# Altium footprint library n21-p2.PcbLib: 36 footprints (part 2 of 3)
Each footprint in its own frame and in the unit in brackets; x right, y up, seen from the top. Pads: shape width x height; smd on the part's side, far side on the other; paste and mask are expansions set on the pad; w line width, h text height; cw(c..) or ccw(c..) is an arc to the next point about the centre after c.
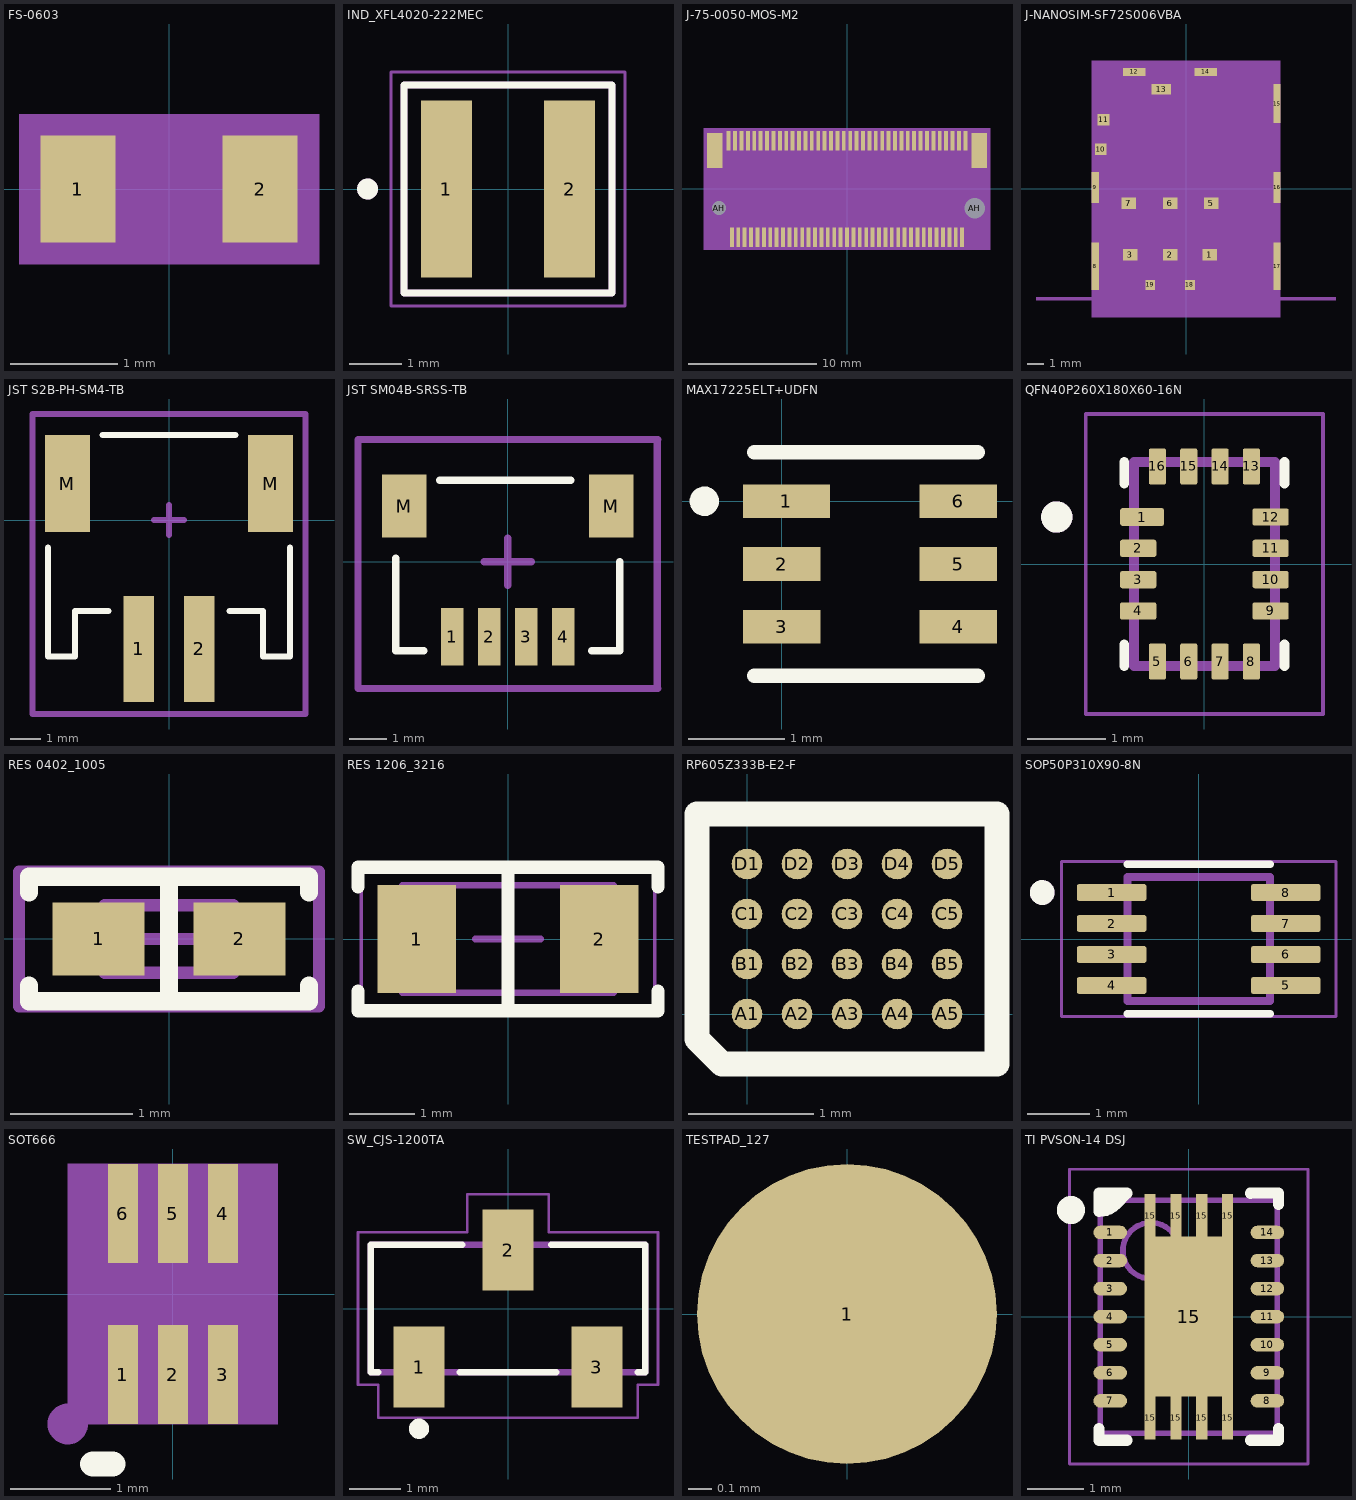
[diagram p1: the footprints below, top view; thin cyan lines are the x and y axes]

## FS-0603 [mm]
pads (2):
  rect 0.7x1 smd: 1(-0.85,0) 2(0.85,0)
Mechanical 19:
  text "1" at -0.85,0.08 h0.2
  text "2" at 0.85,0.08 h0.2
Top Assembly:
  dashed: -1.4,-0.7 -1.4,0.7 1.4,0.7 1.4,-0.7
  pour cut-out: 1.2,-0.5 -1.2,-0.5 -1.2,0.5 1.2,0.5
3D body "FS-0603.stp": height 0.86, standoff 0, extent -0.8,-0.43 0.8,0.43

## IND_XFL4020-222MEC [mm]
pads (2):
  rect 0.98x3.4 smd: 1(-1.185,0) 2(1.185,0)
Top Overlay:
  circle w0.2: c-2.7,0 r0.1
  lines w0.127: -2,-2 -2,2 2,2 2,-2 -2,-2
Mechanical 13:
  circle w0.2: c-2.7,0 r0.1
  lines w0.127: -2,-2 2,-2 2,2 -2,2 -2,-2
Mechanical 15:
  lines w0.05: -2.25,-2.25 2.25,-2.25 2.25,2.25 -2.25,2.25 -2.25,-2.25

## J-75-0050-MOS-M2 [mm]
pads (79):
  rect 0.3x1.55 smd: 1(-9.25,3.775) 2(-9,-3.775) 3(-8.75,3.775) 4(-8.5,-3.775) 5(-8.25,3.775) 6(-8,-3.775) 7(-7.75,3.775) 8(-7.5,-3.775) 9(-7.25,3.775) 10(-7,-3.775) 11(-6.75,3.775) 12(-6.5,-3.775) 13(-6.25,3.775) 14(-6,-3.775) 15(-5.75,3.775) 16(-5.5,-3.775) 17(-5.25,3.775) 18(-5,-3.775) 19(-4.75,3.775) 20(-4.5,-3.775) 21(-4.25,3.775) 22(-4,-3.775) 23(-3.75,3.775) 24(-3.5,-3.775) 25(-3.25,3.775) 26(-3,-3.775) 27(-2.75,3.775) 28(-2.5,-3.775) 29(-2.25,3.775) 30(-2,-3.775) 31(-1.75,3.775) 32(-1.5,-3.775) 33(-1.25,3.775) 34(-1,-3.775) 35(-0.75,3.775) 36(-0.5,-3.775) 37(-0.25,3.775) 38(0,-3.775) 39(0.25,3.775) 40(0.5,-3.775) 41(0.75,3.775) 42(1,-3.775) 43(1.25,3.775) 44(1.5,-3.775) 45(1.75,3.775) 46(2,-3.775) 47(2.25,3.775) 48(2.5,-3.775) 49(2.75,3.775) 50(3,-3.775) 51(3.25,3.775) 52(3.5,-3.775) 53(3.75,3.775) 54(4,-3.775) 55(4.25,3.775) 56(4.5,-3.775) 57(4.75,3.775) 58(5,-3.775) 59(5.25,3.775) 60(5.5,-3.775) 61(5.75,3.775) 62(6,-3.775) 63(6.25,3.775) 64(6.5,-3.775) 65(6.75,3.775) 66(7,-3.775) 67(7.25,3.775) 68(7.5,-3.775) 69(7.75,3.775) 70(8,-3.775) 71(8.25,3.775) 72(8.5,-3.775) 73(8.75,3.775) 74(9,-3.775) 75(9.25,3.775)
  round 1 hole 1.1 unplated: AH(-10,-1.5)
  round 1 hole 1.6 unplated: AH(10,-1.5)
  rect 1.2x2.75 smd: ""(-10.35,3) ""(10.35,3)
Top 3D Body:
  region: -11.2,4.75 11.2,4.75 11.2,-4.75 -11.2,-4.75
Mechanical 19:
  text "71" at 8.09,3.775 h0.2
  text "73" at 8.59,3.775 h0.2
  text "69" at 7.59,3.775 h0.2
  text "75" at 9.09,3.775 h0.2
  text "61" at 5.59,3.775 h0.2
  text "63" at 6.09,3.775 h0.2
  text "59" at 5.09,3.775 h0.2
  text "67" at 7.09,3.775 h0.2
  text "65" at 6.59,3.775 h0.2
  text "53" at 3.59,3.775 h0.2
  text "49" at 2.59,3.775 h0.2
  text "51" at 3.09,3.775 h0.2
  text "47" at 2.09,3.775 h0.2
  text "57" at 4.59,3.775 h0.2
  text "55" at 4.09,3.775 h0.2
  text "39" at 0.09,3.775 h0.2
  text "41" at 0.59,3.775 h0.2
  text "37" at -0.41,3.775 h0.2
  text "45" at 1.59,3.775 h0.2
  text "43" at 1.09,3.775 h0.2
  text "68" at 7.34,-3.775 h0.2
  text "70" at 7.84,-3.775 h0.2
  text "66" at 6.84,-3.775 h0.2
  text "74" at 8.84,-3.775 h0.2
  text "72" at 8.34,-3.775 h0.2
  text "62" at 5.84,-3.775 h0.2
  text "64" at 6.34,-3.775 h0.2
  text "58" at 4.84,-3.775 h0.2
  text "60" at 5.34,-3.775 h0.2
  text "52" at 3.34,-3.775 h0.2
  text "48" at 2.34,-3.775 h0.2
  text "50" at 2.84,-3.775 h0.2
  text "46" at 1.84,-3.775 h0.2
  text "56" at 4.34,-3.775 h0.2
  text "54" at 3.84,-3.775 h0.2
  text "40" at 0.34,-3.775 h0.2
  text "38" at -0.16,-3.775 h0.2
  text "44" at 1.34,-3.775 h0.2
  text "42" at 0.84,-3.775 h0.2
  text "33" at -1.41,3.775 h0.2
  text "35" at -0.91,3.775 h0.2
  text "31" at -1.91,3.775 h0.2
  text "30" at -2.16,-3.775 h0.2
  text "29" at -2.41,3.775 h0.2
  text "21" at -4.41,3.775 h0.2
  text "23" at -3.91,3.775 h0.2
  text "19" at -4.91,3.775 h0.2
  text "27" at -2.91,3.775 h0.2
  text "25" at -3.41,3.775 h0.2
  text "11" at -6.91,3.775 h0.2
  text "13" at -6.41,3.775 h0.2
  text "9" at -7.33,3.775 h0.2
  text "17" at -5.41,3.775 h0.2
  text "15" at -5.91,3.775 h0.2
  text "5" at -8.33,3.775 h0.2
  text "7" at -7.83,3.775 h0.2
  text "3" at -8.83,3.775 h0.2
  text "1" at -9.33,3.775 h0.2
  text "28" at -2.66,-3.775 h0.2
  text "32" at -1.66,-3.775 h0.2
  text "26" at -3.16,-3.775 h0.2
  text "36" at -0.66,-3.775 h0.2
  text "34" at -1.16,-3.775 h0.2
  text "24" at -3.66,-3.775 h0.2
  text "22" at -4.16,-3.775 h0.2
  text "16" at -5.66,-3.775 h0.2
  text "12" at -6.66,-3.775 h0.2
  text "14" at -6.16,-3.775 h0.2
  text "10" at -7.16,-3.775 h0.2
  text "20" at -4.66,-3.775 h0.2
  text "18" at -5.16,-3.775 h0.2
  text "4" at -8.58,-3.775 h0.2
  text "2" at -9.08,-3.775 h0.2
  text "8" at -7.58,-3.775 h0.2
  text "6" at -8.08,-3.775 h0.2
Top Assembly:
  pour cut-out: -11,-4.55 -11,4.55 11,4.55 11,-4.55
  dashed: -11.2,4.75 11.2,4.75 11.2,-4.75 -11.2,-4.75
3D body "J-75-0050-MOS-M2.stp": height 4.1, standoff -0.6, extent -10.95,-4.374 10.95,4.326

## J-NANOSIM-SF72S006VBA [mm]
pads (18):
  rect 0.9x0.7 smd: 1(1.46,-4.05) 2(-0.98,-4.05) 3(-3.42,-4.05) 5(1.56,-0.88) 6(-0.98,-0.88) 7(-3.52,-0.88)
  rect 0.45x2.9 smd: 8(-5.575,-4.75) 17(5.6,-4.75)
  rect 0.45x1.9 smd: 9(-5.575,0.1) 16(5.6,0.1)
  rect 0.7x0.7 smd: 10(-5.25,2.45)
  rect 0.75x0.7 smd: 11(-5.075,4.25)
  rect 1.4x0.5 smd: 12(-3.18,7.2) 14(1.22,7.2)
  rect 1.2x0.65 smd: 13(-1.53,6.125)
  rect 0.45x2.4 smd: 15(5.6,5.25)
  rect 0.6x0.6 smd: 18(0.24,-5.9) 19(-2.2,-5.9)
Top 3D Body:
  region: -5.8,-7.9 -5.8,7.9 5.8,7.9 5.8,-7.9
Mechanical 17:
  text "11" at -4.915,4.25 h0.2
  text "10" at -5.09,2.45 h0.2
  text "12" at -3.02,7.2 h0.2
  text "9" at -5.495,0.1 h0.2
  text "14" at 1.38,7.2 h0.2
  text "13" at -1.37,6.125 h0.2
  text "15" at 5.76,5.25 h0.2
  text "16" at 5.76,0.1 h0.2
  text "7" at -3.44,-0.88 h0.2
  text "8" at -5.495,-4.75 h0.2
  text "3" at -3.34,-4.05 h0.2
  text "19" at -2.04,-5.9 h0.2
  text "6" at -0.9,-0.88 h0.2
  text "1" at 1.54,-4.05 h0.2
  text "2" at -0.9,-4.05 h0.2
  text "5" at 1.64,-0.88 h0.2
  text "18" at 0.4,-5.9 h0.2
  text "17" at 5.76,-4.75 h0.2
Mechanical 18:
  dashed: -9.23,-6.85 -9.23,-6.675 -5.8,-6.675 -5.8,7.9 5.8,7.9 5.8,-6.675 9.23,-6.675 9.23,-6.85
  pour cut-out: 5.6,-6.65 -5.6,-6.65 -5.6,7.7 5.6,7.7
  lines w0.025: -4.145,-5.675 -4.145,-2.425 -2.695,-2.425 -2.695,-5.675 -4.145,-5.675 ; -3.97,-1.23 -3.97,0.65 -3.07,0.65 -3.07,-1.23 -3.97,-1.23 ; -2.68,3.7 -2.68,6.4 1.87,6.4 1.87,3.7 -2.68,3.7 ; -1.705,-5.675 -1.705,-2.425 -0.255,-2.425 -0.255,-5.675 -1.705,-5.675 ; -1.43,-1.23 -1.43,0.65 -0.53,0.65 -0.53,-1.23 -1.43,-1.23 ; 0.735,-5.675 0.735,-2.425 2.185,-2.425 2.185,-5.675 0.735,-5.675 ; 1.11,-1.23 1.11,0.65 2.01,0.65 2.01,-1.23 1.11,-1.23
  text "Only GND Trace" at 3.657,4.057 h0.3
  text "EDGE" at -9.23,-6.475 h1
  text "EDGE" at 5.8,-6.475 h1
Mechanical 255:
  region: -5.8,1.8 -5.8,1.4 -5.6,1.4 -5.6,1.8
  region: -5.8,-3 -5.8,-1.2 -5.6,-1.2 -5.6,-3
  region: 5.6,-3 5.6,-1.2 5.8,-1.2 5.8,-3
  region: 5.6,1.4 5.6,3.7 5.8,3.7 5.8,1.4
  region: -5.8,3.1 -5.8,7.9 5.8,7.9 5.8,6.8 5.6,6.8 5.6,7.7 -5.6,7.7 -5.6,3.1
  region: -5.8,-6.85 -5.8,-6.5 -5.6,-6.5 -5.6,-6.65 5.6,-6.65 5.6,-6.5 5.8,-6.5 5.8,-6.85
3D body "J-NANOSIM-SF72S006VBA.stp": height 1.25, standoff 0, extent -5.575,-7.425 5.645,7.625

## JST S2B-PH-SM4-TB [mm] "JST PH Series 2mm pitch, side entry connector"
height 5.5
pads (4):
  rect 1x3.5 smd: 1(-1,-4.25) 2(1,-4.25)
  rect 1.5x3.2 smd: M(-3.35,1.2) M(3.35,1.2)
Top Overlay:
  lines w0.2: -4,-0.9 -4,-4.5 -3.1,-4.5 -3.1,-3 -2,-3 ; -2.2,2.8 2.2,2.8 ; 2,-3 3.1,-3 3.1,-4.5 4,-4.5 4,-0.9
Mechanical 15:
  lines w0.2: -0.5,0 0.5,0 ; 0,-0.5 0,0.5 ; -4.5,-6.4 -4.5,3.5 4.5,3.5 4.5,-6.4 -4.5,-6.4
3D body "JST S2B-PH-SM4-TB.step": height 5.6, standoff 0, extent -3.95,-5.6 3.95,3.01

## JST SM04B-SRSS-TB [mm] "1.0mm pitch/Disconnectable Crimp style connector"
height 2.95
pads (6):
  rect 0.6x1.55 smd: 1(-1.5,-2.032) 2(-0.5,-2.032) 3(0.5,-2.032) 4(1.5,-2.032)
  rect 1.2x1.7 smd: M(-2.8,1.5) M(2.8,1.5)
Top Overlay:
  lines w0.2: -3.032,0.1 -3.032,-2.413 -2.27,-2.413 ; -1.84,2.2 1.7,2.2 ; 2.27,-2.413 3.032,-2.413 3.032,0
Mechanical 15:
  lines w0.2: -0.635,0 0.635,0 ; 0,-0.635 0,0.635 ; 4.048,-3.429 4.048,3.302 ; 4.064,-3.429 -4.048,-3.429 -4.048,3.302 4.064,3.302
3D body "JST SM04B-SRSS-TB.STEP": height 2.95, standoff -0.01, extent -3,-2.383 3,2.567

## MAX17225ELT+UDFN [mm]
pads (6):
  rect 0.9x0.35 smd: 1(0.05,0)
  rect 0.8x0.35 smd: 2(0,-0.65) 3(0,-1.3) 4(1.83,-1.3) 5(1.83,-0.65) 6(1.83,0)
Top Overlay:
  circle w0.152: c-0.8,0 r0.076
  lines w0.152: -0.283,-1.806 2.029,-1.806 ; -0.283,0.506 2.029,0.506
3D body "21-0164_L622+1C_MXM.step": height 0.79, standoff 0, extent -0.114,-1.679 1.944,0.379

## QFN40P260X180X60-16N [mm]
pads (16):
  rrect25% 0.562x0.225 smd: 1(-0.795,0.6)
  rrect25% 0.463x0.22 smd: 2(-0.845,0.2) 3(-0.845,-0.2) 4(-0.845,-0.6) 9(0.845,-0.6) 10(0.845,-0.2) 11(0.845,0.2) 12(0.845,0.6)
  rrect25% 0.22x0.463 smd: 5(-0.6,-1.245) 6(-0.2,-1.245) 7(0.2,-1.245) 8(0.6,-1.245) 13(0.6,1.245) 14(0.2,1.245) 15(-0.2,1.245) 16(-0.6,1.245)
Top Overlay:
  circle w0.2: c-1.885,0.6 r0.1
  lines w0.127: -1.024,-1.3 -1.024,-1.03 ; -1.024,1.03 -1.024,1.3 ; 1.024,-1.3 1.024,-1.03 ; 1.024,1.03 1.024,1.3
Mechanical 13:
  circle w0.2: c-1.885,0.6 r0.1
  lines w0.127: -0.9,-1.3 0.9,-1.3 0.9,1.3 -0.9,1.3 -0.9,-1.3
Mechanical 15:
  lines w0.05: -1.515,-1.915 1.515,-1.915 1.515,1.915 -1.515,1.915 -1.515,-1.915

## RES 0402_1005 [mm] "Chip Resistor, 2-Leads, Body 1.0x0.5mm, IPC Medium Density"
height 0.4
pads (2):
  rect 0.75x0.6 smd: 1(-0.575,0) 2(0.575,0)
Top Overlay:
  lines w0.15: -1.143,-0.381 -1.143,-0.508 1.143,-0.508 1.143,-0.381 ; -1.143,0.381 -1.143,0.508 1.143,0.508 1.143,0.381 ; 0,-0.508 0,0.508
Mechanical 13:
  lines w0.1: -0.525,-0.275 -0.525,0.275 0.525,0.275 0.525,-0.275 -0.525,-0.275
Mechanical 15:
  lines w0.1: -0.275,0 0.275,0 ; 0,-0.275 0,0.275 ; -1.225,-0.55 -1.225,0.55 1.225,0.55 1.225,-0.55 -1.225,-0.55
3D body "0402 resistor.STEP": height 0.35, standoff 0, extent -0.5,-0.25 0.5,0.25

## RES 1206_3216 [mm] "Chip Resistor, 2-Leads, Body 3.13x1.55mm, IPC Medium Density"
height 0.7
pads (2):
  rect 1.2x1.65 smd: 1(-1.4,0) 2(1.4,0)
Top Overlay:
  lines w0.2: -2.3,-0.8 -2.3,-1.1 2.3,-1.1 2.3,-0.8 ; -2.3,0.8 -2.3,1.1 2.3,1.1 2.3,0.8 ; 0,-1.1 0,1.1
Mechanical 13:
  lines w0.1: -1.625,-0.825 1.625,-0.825 1.625,0.825 -1.625,0.825 -1.625,-0.825
Mechanical 15:
  lines w0.05: -2.25,-1.1 2.25,-1.1 2.25,1.1 -2.25,1.1 -2.25,-1.1
  lines w0.1: -0.5,0 0.5,0 ; 0,-0.5 0,0.5
3D body "1206 resistor.STEP": height 0.6, standoff 0, extent -1.6,-0.8 1.6,0.8

## RP605Z333B-E2-F [mm]
pads (20):
  round 0.245 smd: A1(0,0) A2(0.4,0) A3(0.8,0) A4(1.2,0) A5(1.6,0) B1(0,0.4) B2(0.4,0.4) B3(0.8,0.4) B4(1.2,0.4) B5(1.6,0.4) C1(0,0.8) C2(0.4,0.8) C3(0.8,0.8) C4(1.2,0.8) C5(1.6,0.8) D1(0,1.2) D2(0.4,1.2) D3(0.8,1.2) D4(1.2,1.2) D5(1.6,1.2)
Top Overlay:
  lines w0.2: -0.4,-0.2 -0.4,1.6 2,1.6 2,-0.4 -0.2,-0.4 -0.4,-0.2
3D body: height 0.36, standoff 0.05, extent -0.4,-0.4 2,1.6

## SOP50P310X90-8N [mm]
pads (8):
  rrect25% 1.12x0.27 smd: 1(-1.405,0.75) 2(-1.405,0.25) 3(-1.405,-0.25) 4(-1.405,-0.75) 5(1.405,-0.75) 6(1.405,-0.25) 7(1.405,0.25) 8(1.405,0.75)
Top Overlay:
  circle w0.2: c-2.525,0.75 r0.1
  lines w0.127: -1.15,-1.205 1.15,-1.205 ; -1.15,1.205 1.15,1.205
Mechanical 13:
  circle w0.2: c-2.525,0.75 r0.1
  lines w0.127: -1.15,-1 -1.15,1 1.15,1 1.15,-1 -1.15,-1
Mechanical 15:
  lines w0.05: -2.215,-1.25 -2.215,1.25 2.215,1.25 2.215,-1.25 -2.215,-1.25
3D body "step_temp.STEP": height 0.9, standoff 0, extent -1.55,-1 1.55,1

## SOT666 [mm]
pads (6):
  rect 0.3x0.99 smd: 1(-0.5,-0.805) 2(0,-0.805) 3(0.5,-0.805) 4(0.5,0.805) 5(0,0.805) 6(-0.5,0.805)
Top Overlay:
  lines w0.254: -0.8,-1.7 -0.6,-1.7
Top 3D Body:
  region: -1.05,1.3 -1.05,-1.3 1.05,-1.3 1.05,1.3
Mechanical 17:
  text "3" at 0.6,-0.865 h0.2
  text "1" at -0.4,-0.865 h0.2
  text "2" at 0.1,-0.865 h0.2
  text "4" at 0.6,0.745 h0.2
  text "5" at 0.1,0.745 h0.2
  text "6" at -0.4,0.745 h0.2
Mechanical 18:
  dashed: -1.05,-0.85 -1.05,0.85 -0.65,0.85 -0.65,0.65 -0.85,0.65 -0.85,-0.65 -0.65,-0.65 -0.65,-0.85
  dashed: 0.65,-0.85 0.65,-0.65 0.85,-0.65 0.85,0.65 0.65,0.65 0.65,0.85 1.05,0.85 1.05,-0.85
  dashed: -0.57,-0.156 -0.648,-0.172 -0.714,-0.216 -0.758,-0.282 -0.774,-0.36 -0.758,-0.438 -0.744,-0.46 -0.714,-0.504 -0.648,-0.548 -0.57,-0.564 -0.492,-0.548 -0.426,-0.504 -0.396,-0.46 -0.382,-0.438 -0.366,-0.36 -0.382,-0.282 -0.426,-0.216 -0.492,-0.172
Mechanical 255:
  circle w0.254: c-1.05,-1.3 r0.076
  region: -1.05,-0.85 -1.05,0.85 -0.75,0.85 -0.75,0.65 -0.85,0.65 -0.85,-0.65 -0.75,-0.65 -0.75,-0.85
  region: 0.75,-0.85 0.75,-0.65 0.85,-0.65 0.85,0.65 0.75,0.65 0.75,0.85 1.05,0.85 1.05,-0.85
3D body "SOT666.stp": height 0.6, standoff 0, extent -0.794,-0.8 0.797,0.8

## SW_CJS-1200TA [mm]
pads (3):
  rect 1x1.6 smd: 1(-1.75,-1.15) 2(0,1.15) 3(1.75,-1.15)
Top Overlay:
  circle w0.2: c-1.75,-2.365 r0.1
  lines w0.127: -2.55,-1.25 -2.7,-1.25 -2.7,1.25 -0.9,1.25 ; -0.95,-1.25 0.95,-1.25 ; 0.85,1.25 2.7,1.25 2.7,-1.25 2.55,-1.25
Mechanical 13:
  lines w0.127: -2.7,-1.25 -2.7,1.25 2.7,1.25 2.7,-1.25 -2.7,-1.25
Mechanical 15:
  lines w0.05: -2.95,-1.5 -2.95,1.5 -0.8,1.5 -0.8,2.25 0.8,2.25 0.8,1.5 2.95,1.5 2.95,-1.5 2.55,-1.5 2.55,-2.15 -2.55,-2.15 -2.55,-1.5 -2.95,-1.5
3D body "step_temp.STEP": height 2.5, standoff 0, extent -2.7,-1.4 2.7,1.4

## TESTPAD_127 [mm]
pads (1):
  round 1.27 smd: 1(0,0)

## TI PVSON-14 DSJ [mm] "VSON, 14-Leads, Body 3.00x4.00mm, Pitch 0.50mm, Thermal Pad 1.58x2.85mm, IPC Medium Density"
height 1
pads (23):
  oval 0.6x0.24 smd: 1(-1.4,1.5) 2(-1.4,1) 3(-1.4,0.5) 4(-1.4,0) 5(-1.4,-0.5) 6(-1.4,-1) 7(-1.4,-1.5) 8(1.4,-1.5) 9(1.4,-1) 10(1.4,-0.5) 11(1.4,0) 12(1.4,0.5) 13(1.4,1) 14(1.4,1.5)
  rect 0.2x0.775 smd: 15(-0.69,-1.8) 15(-0.69,1.8) 15(-0.23,-1.8) 15(-0.23,1.8) 15(0.23,-1.8) 15(0.23,1.8) 15(0.69,-1.8) 15(0.69,1.8)
  rect 1.58x2.85 smd: 15(0,0)
Top Overlay:
  circle w0.25: c-2.1,1.9 r0.125
  region: -1.6,2.2 -1.1,2.2 -1.425,1.875 -1.6,1.875
  lines w0.2: -1.6,-1.995 -1.6,-2.2 -1.1,-2.2 ; 1.1,-2.2 1.6,-2.2 1.6,-1.995 ; 1.1,2.2 cw(c1.112,2.188) 1.112,2.205 1.6,2.205 1.6,2 ; -1.6,1.875 ccw(c-1.6,2.297) -1.301,1.999 -1.1,2.2 -1.6,2.2 -1.6,1.875
Mechanical 13:
  circle w0.1: c-0.675,1.175 r0.5
  lines w0.1: -1.575,-2.075 1.575,-2.075 1.575,2.075 -1.575,2.075 -1.575,-2.075
Mechanical 15:
  lines w0.05: -2.125,-2.625 2.125,-2.625 2.125,2.625 -2.125,2.625 -2.125,-2.625
  lines w0.1: -0.5,0 0.5,0 ; 0,-0.5 0,0.5
3D body: height 1, standoff 0.08, extent -1.575,-2.075 1.575,2.075